# Altium footprint library MGH2805 vs SLH2805.PcbLib: 1 footprints
Each footprint in its own frame and in the unit in brackets; x right, y up, seen from the top. Pads: shape width x height; smd on the part's side, far side on the other; paste and mask are expansions set on the pad; w line width, h text height; cw(c..) or ccw(c..) is an arc to the next point about the centre after c.
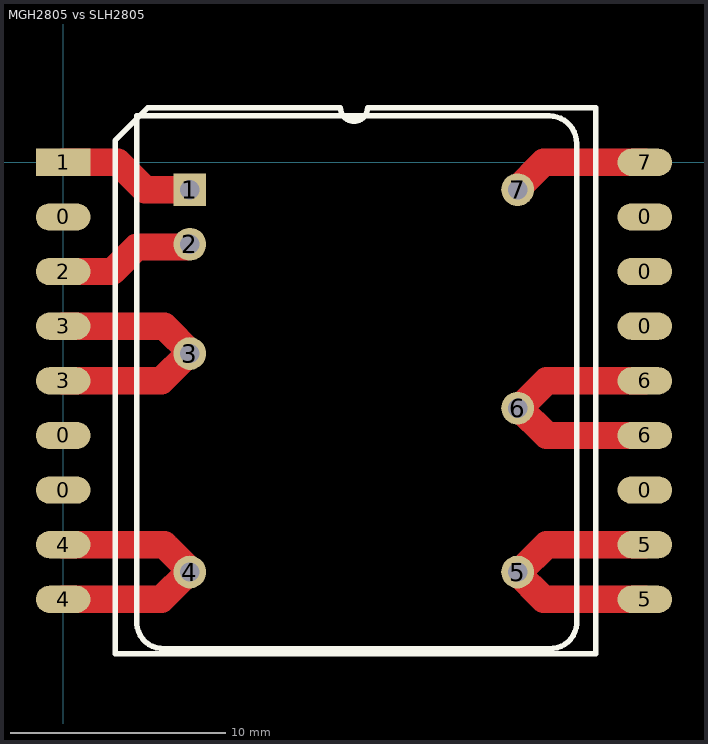
[diagram p0: the footprint, top view; thin cyan lines are the x and y axes]

## MGH2805 vs SLH2805 [mil]
pads (25):
  oval 100x50 smd: 0(0,-600) 0(0,-500) 0(0,-100) 0(1065,-600) 0(1065,-300) 0(1065,-200) 0(1065,-100) 2(0,-200) 3(0,-400) 3(0,-300) 4(0,-800) 4(0,-700) 5(1065,-800) 5(1065,-700) 6(1065,-500) 6(1065,-400) 7(1065,0)
  rect 100x50 smd: 1(0,0)
  rect 60x60 hole 35.43: 1(232,-50)
  round 60 hole 35.43: 2(232,-150) 3(232,-350) 4(232,-750) 5(832,-750) 6(832,-450) 7(832,-50)
Top Layer:
  lines w50: 0,-800 180,-800 230,-750 230,-745 190,-705 ; 0,-700 185,-700 ; 0,-400 180,-400 230,-350 ; 0,-300 185,-300 235,-350 ; 0,-200 90,-200 135,-155 225,-155 ; 0,0 100,0 150,-50 230,-50 ; 830,-750 880,-800 1065,-800 ; 830,-50 880,0 1065,0 ; 835,-750 885,-700 1065,-700 ; 1065,-500 885,-500 835,-450 885,-400 1065,-400
Top Overlay:
  lines w10: 135,-845 ccw(c182.5,-842.5) 185,-890 890,-890 ccw(c892.5,-842.5) 940,-845 ; 135,-840 135,85 890,85 cw(c890,35) 940,35 940,-840 ; 95,-900 975,-900 975,100 557.5,100 cw(c532.5,100) 507.5,100 155,100 95,40 95,-900
3D body: height 269.69, standoff 19.68, extent 95,-900 975,100
3D body: height 270, standoff 0, extent 135,-895 940,85